# Altium footprint library MURATA_DLW5BS.PcbLib: 1 footprints
Each footprint in its own frame and in the unit in brackets; x right, y up, seen from the top. Pads: shape width x height; smd on the part's side, far side on the other; paste and mask are expansions set on the pad; w line width, h text height; cw(c..) or ccw(c..) is an arc to the next point about the centre after c.
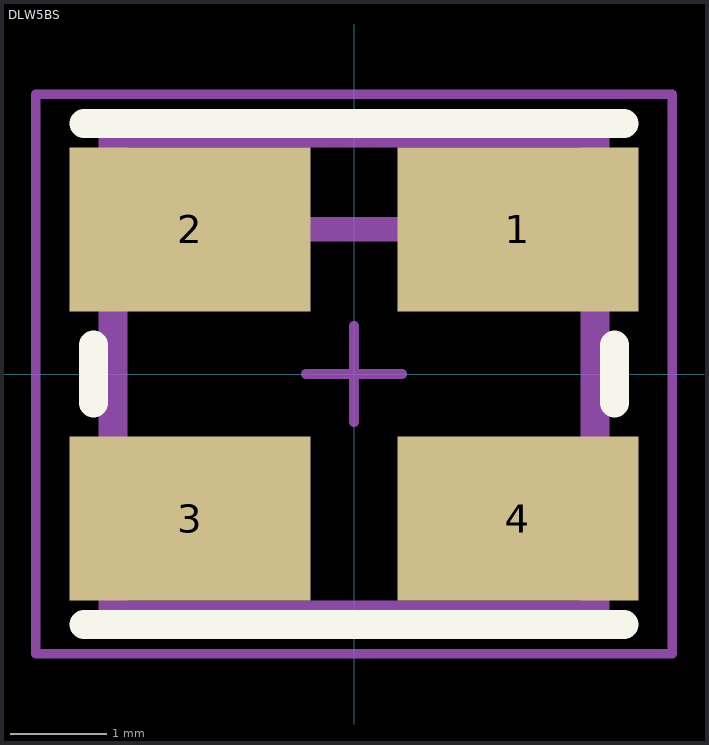
[diagram p0: the footprint, top view; thin cyan lines are the x and y axes]

## DLW5BS [mm] "Common Mode Choke Coil 5x5x4,5mm (SMD 2020)"
height 4.5
pads (4):
  rect 2.5x1.7 smd: 1(1.7,1.5) 2(-1.7,1.5) 3(-1.7,-1.5) 4(1.7,-1.5)
Top Overlay:
  lines w0.3: -2.8,-2.6 2.8,-2.6 ; -2.8,2.6 2.8,2.6 ; -2.7,-0.3 -2.7,0.3 ; 2.7,-0.3 2.7,0.3
Top Assembly:
  lines w0.254: -2,1.5 2,1.5
  lines w0.3: -2.5,-2.5 2.5,-2.5 2.5,2.5 -2.5,2.5 -2.5,-2.5
Top Courtyard (Mech7):
  lines w0.1: -3.3,-2.9 3.3,-2.9 3.3,2.9 -3.3,2.9 -3.3,-2.9
Top Component Center:
  lines w0.1: -0.5,0 0.5,0 ; 0,-0.5 0,0.5
3D body: height 0.45, standoff 0, extent -1.8,-2.5 1.8,2.5
3D body: height 2.35, standoff 0.45, extent -2.5,-2.5 2.5,2.5
3D body: height 0.45, standoff 0, extent 1.675,-2.3 1.825,-0.65
3D body: height 0.45, standoff 0, extent -1.825,0.65 -1.675,2.3
3D body: height 0.45, standoff 0, extent -1.825,-2.3 -1.675,-0.662
3D body: height 0.45, standoff 0, extent 1.675,0.662 1.825,2.3